# Altium schematic symbol library SCH - DRIVER - LED - TI TPS92515HV-Q1DGQ.SchLib: 1 symbol
Pins are listed as number, name and electrical type; pins without a type are passive.

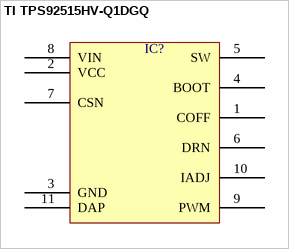
[diagram p0: symbol TI TPS92515HV-Q1DGQ]

## TI TPS92515HV-Q1DGQ
designator IC?  (value not drawn)
pins: 1 COFF, 2 VCC, 3 GND, 4 BOOT, 5 SW, 6 DRN, 7 CSN, 8 VIN, 9 PWM, 10 IADJ, 11 DAP